# EAGLE library part STM32F303CBT7 (library MCU)
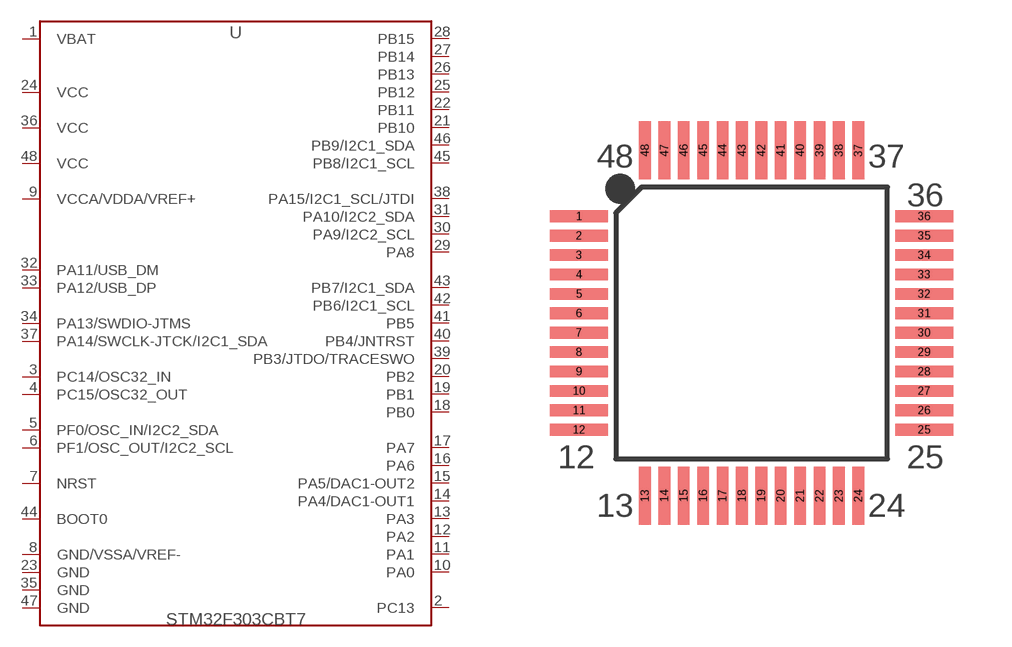
[diagram p2: symbol with the pads of LQFP48; footprint LQFP48]

Designator prefix U

## STM32F303CBT7  [LQFP48]
1  VBAT  pas
2  PC13  pas
3  PC14/OSC32_IN  pas
4  PC15/OSC32_OUT  pas
5  PF0/OSC_IN/I2C2_SDA  pas
6  PF1/OSC_OUT/I2C2_SCL  pas
7  NRST  pas
8  GND/VSSA/VREF-  pas
9  VCCA/VDDA/VREF+  pas
10  PA0  pas
11  PA1  pas
12  PA2  pas
13  PA3  pas
14  PA4/DAC1-OUT1  pas
15  PA5/DAC1-OUT2  pas
16  PA6  pas
17  PA7  pas
18  PB0  pas
19  PB1  pas
20  PB2  pas
21  PB10  pas
22  PB11  pas
23  GND  pas
24  VCC  pas
25  PB12  pas
26  PB13  pas
27  PB14  pas
28  PB15  pas
29  PA8  pas
30  PA9/I2C2_SCL  pas
31  PA10/I2C2_SDA  pas
32  PA11/USB_DM  pas
33  PA12/USB_DP  pas
34  PA13/SWDIO-JTMS  pas
35  GND  pas
36  VCC  pas
37  PA14/SWCLK-JTCK/I2C1_SDA  pas
38  PA15/I2C1_SCL/JTDI  pas
39  PB3/JTDO/TRACESWO  pas
40  PB4/JNTRST  pas
41  PB5  pas
42  PB6/I2C1_SCL  pas
43  PB7/I2C1_SDA  pas
44  BOOT0  pas
45  PB8/I2C1_SCL  pas
46  PB9/I2C1_SDA  pas
47  GND  pas
48  VCC  pas

## Footprint LQFP48 (pad centres in mm)
smd 1.5 x 0.3: 1 -4.45,2.75; 2 -4.45,2.25; 3 -4.45,1.75; 4 -4.45,1.25; 5 -4.45,0.75; 6 -4.45,0.25; 7 -4.45,-0.25; 8 -4.45,-0.75; 9 -4.45,-1.25; 10 -4.45,-1.75; 11 -4.45,-2.25; 12 -4.45,-2.75; 25 4.45,-2.75; 26 4.45,-2.25; 27 4.45,-1.75; 28 4.45,-1.25; 29 4.45,-0.75; 30 4.45,-0.25; 31 4.45,0.25; 32 4.45,0.75; 33 4.45,1.25; 34 4.45,1.75; 35 4.45,2.25; 36 4.45,2.75
smd 0.3 x 1.5: 13 -2.75,-4.45; 14 -2.25,-4.45; 15 -1.75,-4.45; 16 -1.25,-4.45; 17 -0.75,-4.45; 18 -0.25,-4.45; 19 0.25,-4.45; 20 0.75,-4.45; 21 1.25,-4.45; 22 1.75,-4.45; 23 2.25,-4.45; 24 2.75,-4.45; 37 2.75,4.45; 38 2.25,4.45; 39 1.75,4.45; 40 1.25,4.45; 41 0.75,4.45; 42 0.25,4.45; 43 -0.25,4.45; 44 -0.75,4.45; 45 -1.25,4.45; 46 -1.75,4.45; 47 -2.25,4.45; 48 -2.75,4.45